# Altium footprint library Bollbot_V100.PcbLib: 34 footprints (part 1 of 3)
Each footprint in its own frame and in the unit in brackets; x right, y up, seen from the top. Pads: shape width x height; smd on the part's side, far side on the other; paste and mask are expansions set on the pad; w line width, h text height; cw(c..) or ccw(c..) is an arc to the next point about the centre after c.
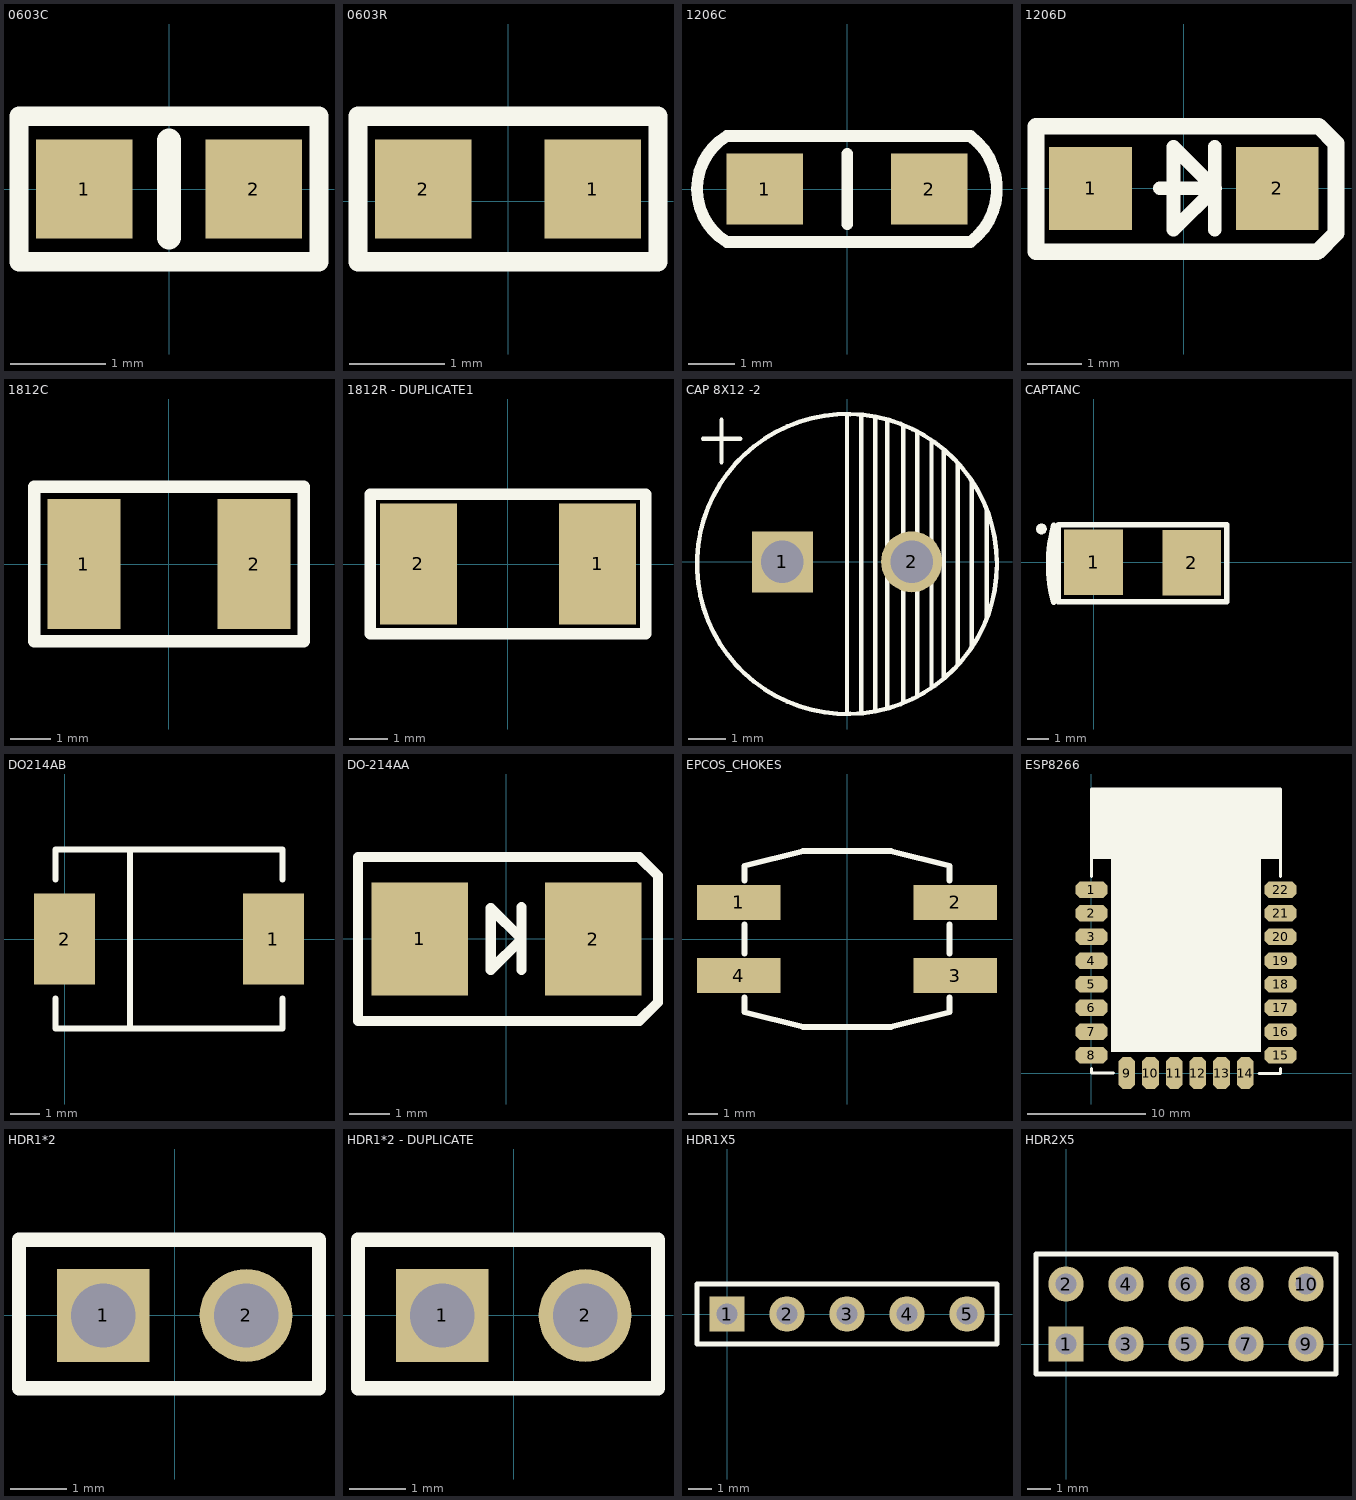
[diagram p0: the footprints below, top view; thin cyan lines are the x and y axes]

## 0603C [mil]
height 200
pads (2):
  rect 40x41 smd: 1(-35,0) 2(35,0)
Top Overlay:
  lines w8: -62,-30 -62,30 62,30 62,-30 -62,-30
  lines w10: 0,-20 0,20
3D body "User Library-cap_0603_lowprofile.STEP": height 23.62, standoff 0, extent -31.5,-15.75 31.5,15.75

## 0603R [mil]
height 200
pads (2):
  rect 40x41 smd: 1(35,5) 2(-35,5)
Top Overlay:
  lines w8: -62,-25 62,-25 62,35 -62,35 -62,-25
3D body "R0603.STEP": height 17.72, standoff 0, extent -31.5,-10.75 31.5,20.75

## 1206C [mil]
height 200
pads (2):
  rect 65x60 smd: 1(-70,0) 2(70,0)
Top Overlay:
  lines w10: -102.53,-45 105,-45 ; -102.49,-45.02 cw(c-75.12,0) -102.57,44.98 105,45 ; 0,-30 0,30 ; 104.96,45.03 cw(c71.27,0) 105.04,-44.97
3D body "1206_SMD_Capacitor.step": height 39.45, standoff 0, extent -62.99,-31.49 63,31.5

## 1206D [mil] "1206-Diode"
height 400
pads (2):
  rect 60x60 smd: 1(-67.5,0) 2(67.5,0)
Top Overlay:
  lines w10: -17.5,0 22.5,0 ; 22.35,-30 22.35,30 ; 22.5,0 -7.5,-30 -7.5,30 22.5,0
  lines w12: -107,-46 -107,45 97.5,45 110,32.5 110,-32.5 96.5,-46 -107,-46
3D body "SOD123.STEP": height -45, standoff -95, extent -72.83,-31.49 72.84,31.5

## 1812C [mm]
pads (2):
  rect 1.8x3.2 smd: 1(-2.1,0) 2(2.1,0)
Top Overlay:
  lines w0.305: -3.327,-1.905 3.327,-1.905 3.327,1.905 -3.327,1.905 -3.327,-1.905
3D body "1812C.step": height 1.6, standoff 0, extent -2.25,-1.6 2.25,1.6

## 1812R - DUPLICATE1 [mil]
height 400
pads (2):
  rect 80x125 smd: 1(92.5,0) 2(-92.5,0)
Top Overlay:
  lines w12: -142.5,-72 -142.5,72 142.5,72 142.5,-72 -142.5,-72
3D body: height 100, standoff 0, extent -92,-52.74 95,50.87

## CAP 8X12 -2 [mil]
height 104.33
pads (2):
  rect 65x65 hole 45: 1(-68.9,0)
  round 65 hole 45: 2(68.9,0)
Top Overlay:
  circle w4.72: c0,-2.36 r159.77
  lines w4.72: -153.39,131.04 -113.62,131.04 ; -133.7,105.84 -133.7,151.12 ; 0,-162 0,157 ; 15,-159 15,155 ; 30,-158 30,153 ; 43,-154 43,150 ; 60,-149 60,145 ; 75,-142 75,138 ; 90,-133 90,129
  lines w5: 103,-123 103,118 ; 118,-109 118,105 ; 133,-90 133,85 ; 149,-58 149,54
3D body "User Library-Cap electrolitic radial 8x12.STEP": height 503.94, standoff -27.56, extent -157.42,-157.39 157.43,157.45

## CAPTANC [mm]
height 5.08
pads (3):
  rect 2.7x3 smd: 1(0,0) 2(4.502,-0.025)
  round 0.5 on Top Overlay: ""(-2.388,1.524)
Top Overlay:
  lines w0.254: -1.854,-1.678 -1.854,1.422 ; -1.827,-1.833 cw(c4.525,-0.081) -1.817,1.706 ; -1.626,-1.805 6.096,-1.802 6.096,1.729 -1.599,1.729 -1.626,1.702 -1.626,-1.805
3D body "User Library-AVX_C_CASE.STEP": height 2.7, standoff 0, extent -0.84,-1.802 5.26,1.548

## DO214AB [mil]
height 200
pads (2):
  rect 80x120 smd: 1(275.59,0) 2(0,0)
Top Overlay:
  lines w8: -11.81,-78.74 -11.81,-118.11 287.4,-118.11 287.4,-78.74 ; -11.81,78.74 -11.81,118.11 287.4,118.11 287.4,78.74 ; 86.61,-114.17 86.61,118.11

## DO-214AA [mm]
height 10.16
pads (2):
  rect 2.4x2.8 smd: 1(-2.153,0.001) 2(2.153,-0.001)
Top Overlay:
  lines w0.254: 0.375,-0.762 0.375,0.787 ; 0.965,-2.033 -3.683,-2.033 -3.683,2.031 3.099,2.031 ; 1.01,-2.033 3.296,-2.033 3.759,-1.57 3.759,1.567 3.296,2.031 1.01,2.031 ; -0.387,-0.763 0.375,-0.001 -0.387,0.761 -0.387,-0.763
3D body "User Library-DO-214AA_SMB.STEP": height 2.2, standoff -0.05, extent -2.65,-1.85 2.65,1.85

## EPCOS_CHOKES [mm]
height 5.2
pads (4):
  rect 2.85x1.2 smd: 1(-3.7,1.25) 2(3.7,1.25) 3(3.7,-1.25) 4(-3.7,-1.25)
Top Overlay:
  lines w0.203: -3.5,-2 -3.5,-2.5 -1.5,-3 1.5,-3 3.5,-2.5 3.5,-2 ; -3.5,-0.5 -3.5,0.5 ; -3.5,2 -3.5,2.5 -1.5,3 1.5,3 3.5,2.5 3.5,2 ; 3.5,-0.5 3.5,0.5

## ESP8266 [mm]
height 10.16
pads (22):
  oct 2.7x1.4 smd: 1(0,15.5) 2(0,13.5) 3(0,11.5) 4(0,9.5) 5(0,7.5) 6(0,5.5) 7(0,3.5) 8(0,1.5) 15(16,1.5) 16(16,3.5) 17(16,5.5) 18(16,7.5) 19(16,9.5) 20(16,11.5) 21(16,13.5) 22(16,15.5)
  oct 1.4x2.7 smd: 9(3,0) 10(5,0) 11(7,0) 12(9,0) 13(11,0) 14(13,0)
Top Overlay:
  rectangle: 1.651,1.778 14.351,19.05
  rectangle: 0,18.085 16.027,24
  lines w0.254: 0,0.4 0,0 1.88,0 ; 0,16.612 0,24 16,24 16,16.612 ; 14.173,-0.025 16,-0.025 16,0.4

## HDR1*2 [mil]
height 400
pads (2):
  rect 65x65 hole 45: 1(-50,0)
  round 65 hole 45: 2(50,0)
Top Overlay:
  lines w10: -109,-51 101,-51 101,53 -109,53 -109,-51
3D body "2pin.step": height 322.83, standoff -118.11, extent -103.93,-49.32 96.06,49.05

## HDR1*2 - DUPLICATE [mil]
pads (2):
  rect 65x65 hole 45: 1(-50,0)
  round 65 hole 45: 2(50,0)
Top Overlay:
  lines w10: -109,-51 -109,53 101,53 101,-51 -109,-51

## HDR1X5 [mm] "Connector; Header; 5 Position"
height 10.16
pads (5):
  rect 1.5x1.5 hole 0.9: 1(0,0)
  round 1.5 hole 0.9: 2(2.54,0) 3(5.08,0) 4(7.62,0) 5(10.16,0)
Top Overlay:
  lines w0.2: -1.27,-1.27 11.43,-1.27 11.43,1.27 -1.27,1.27 -1.27,-1.27

## HDR2X5 [mm] "Connector; Header; 5x2 Position"
height 10.16
pads (10):
  rect 1.5x1.5 hole 0.9: 1(0,0)
  round 1.5 hole 0.9: 2(0,2.54) 3(2.54,0) 4(2.54,2.54) 5(5.08,0) 6(5.08,2.54) 7(7.62,0) 8(7.62,2.54) 9(10.16,0) 10(10.16,2.54)
Top Overlay:
  lines w0.2: -1.27,-1.27 -1.27,3.81 11.43,3.81 11.43,-1.27 -1.27,-1.27
3D body "pin_header_awl254-dg-g10d.stp": height 8.5, standoff -3, extent -1.27,-1.245 11.43,3.835